# Altium footprint library Power_management_chip.PcbLib: 1 footprints
Each footprint in its own frame and in the unit in brackets; x right, y up, seen from the top. Pads: shape width x height; smd on the part's side, far side on the other; paste and mask are expansions set on the pad; w line width, h text height; cw(c..) or ccw(c..) is an arc to the next point about the centre after c.
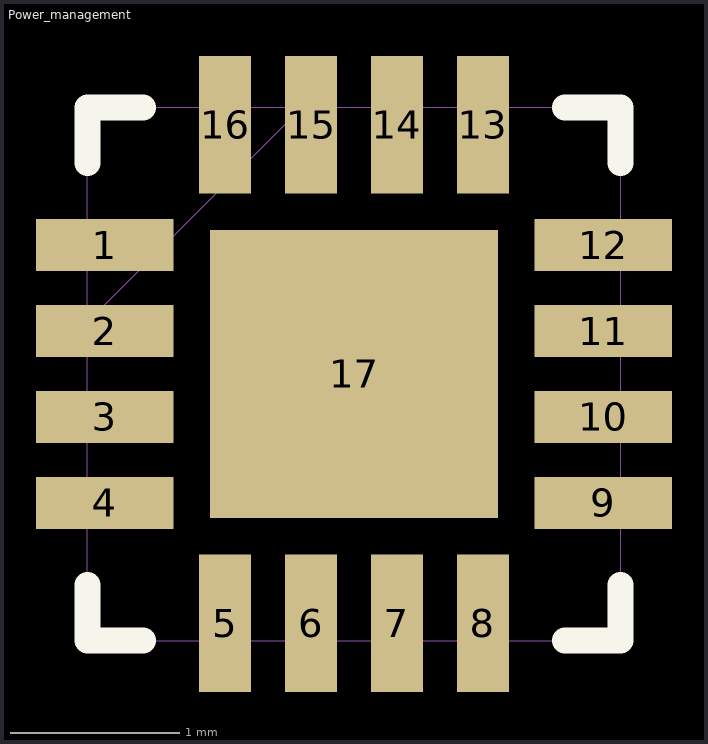
[diagram p0: the footprint, top view; thin cyan lines are the x and y axes]

## Power_management [mil]
pads (17):
  rect 32x12 smd: 1(182,215) 2(182,195) 3(182,175) 4(182,155) 9(298,155) 10(298,175) 11(298,195) 12(298,215)
  rect 12x32 smd: 5(210,127) 6(230,127) 7(250,127) 8(270,127) 13(270,243) 14(250,243) 15(230,243) 16(210,243)
  rect 67x67 smd: 17(240,185)
Top Overlay:
  lines w6: 178,136 178,123 191,123 ; 178,234 178,247 191,247 ; 289,123 302,123 302,136 ; 289,247 302,247 302,234
Mechanical 4:
  lines w0: 178,123 178,247 ; 178,123 302,123 ; 178,123 178,247 ; 178,123 302,123 ; 178,247 302,247 ; 178,247 302,247 ; 302,123 302,247 ; 302,123 302,247 ; 178,150 178,161 178,150 ; 178,169 178,181 178,169 ; 178,189 178,201 178,189 ; 178,197 228,247 178,197 ; 178,209 178,220 178,209 ; 205,123 216,123 205,123 ; 205,247 216,247 205,247 ; 224,123 236,123 224,123 ; 224,247 236,247 224,247 ; 244,123 256,123 244,123 ; 244,247 256,247 244,247 ; 264,123 275,123 264,123 ; 264,247 275,247 264,247 ; 302,150 302,161 302,150 ; 302,169 302,181 302,169 ; 302,189 302,201 302,189 ; 302,209 302,220 302,209